# Altium schematic symbol library AD8334ACPZ.SchLib: 1 symbol
Pins are listed as number, name and electrical type; pins without a type are passive.

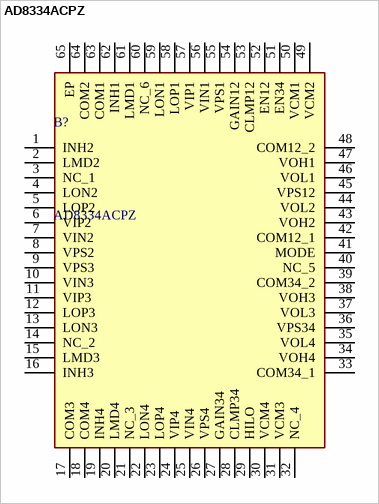
[diagram p0: symbol AD8334ACPZ]

## AD8334ACPZ
designator B?
AD8334ACPZ, Programmable Gain Amplifier 4, 64-Pin LFCSP VQ; Manufacturer_Name: Analog Devices; Geometry.Height: 1mm; Mouser Part Number: 584-AD8334ACPZ; Mouser Price/Stock: https://www.mouser.co.uk/ProductDetail/Analog-Devices/AD8334ACPZ?qs=%2FtpEQrCGXCzTJzxDI2lL6w%3D%3D; Manufacturer_Part_Number: AD8334ACPZ; Datasheet Link: https://datasheet.datasheetarchive.com/originals/distributors/SFDatasheet-4/sf-00084955.pdf
footprint QFN50P900X900X100-65N-D
pins: 1 INH2, 2 LMD2, 3 NC_1, 4 LON2, 5 LOP2, 6 VIP2, 7 VIN2, 8 VPS2, 9 VPS3, 10 VIN3, 11 VIP3, 12 LOP3, 13 LON3, 14 NC_2, 15 LMD3, 16 INH3, 17 COM3, 18 COM4, 19 INH4, 20 LMD4, 21 NC_3, 22 LON4, 23 LOP4, 24 VIP4, 25 VIN4, 26 VPS4, 27 GAIN34, 28 CLMP34, 29 HILO, 30 VCM4, 31 VCM3, 32 NC_4, 33 COM34_1, 34 VOH4, 35 VOL4, 36 VPS34, 37 VOL3, 38 VOH3, 39 COM34_2, 40 NC_5, 41 MODE, 42 COM12_1, 43 VOH2, 44 VOL2, 45 VPS12, 46 VOL1, 47 VOH1, 48 COM12_2, 49 VCM2, 50 VCM1, 51 EN34, 52 EN12, 53 CLMP12, 54 GAIN12, 55 VPS1, 56 VIN1, 57 VIP1, 58 LOP1, 59 LON1, 60 NC_6, 61 LMD1, 62 INH1, 63 COM1, 64 COM2, 65 EP